# EAGLE library part MAX1729 (library cTechnologies_integratedCircuits)
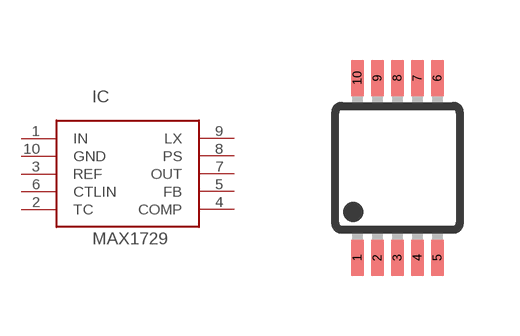
[diagram p20: symbol with the pads of UMAX10; footprint UMAX10]

Designator prefix IC

## MAX1729EUB  [UMAX10]
1  IN
2  TC
3  REF
4  COMP
5  FB
6  CTLIN
7  OUT
8  PS
9  LX
10  GND

## Footprint UMAX10 (pad centres in mm)
micro MAX Package
smd 0.32 x 0.9: 1 -1,-2.25; 2 -0.5,-2.25; 3 0,-2.25; 4 0.5,-2.25; 5 1,-2.25; 6 1,2.25; 7 0.5,2.25; 8 0,2.25; 9 -0.5,2.25; 10 -1,2.25